# EAGLE library part MOLEX_MICRO_USB_B_BOTTOM_MOUNT (library 3DRobotics_Master_Library)
Molex Micro USB B Receptacle, bottom mount Micro-USB technology was developed by the USB Implementers Forum, Inc. (USB-IF), an independent nonprofit group that advances USB technology. Molex's Micro-USB connectors offer advantages of smaller size and increased durability compared with the Mini-USB. Micro-USB connectors allow manufacturers to push the limits of thinner and lighter mobile devices with sleeker designs and greater portability.
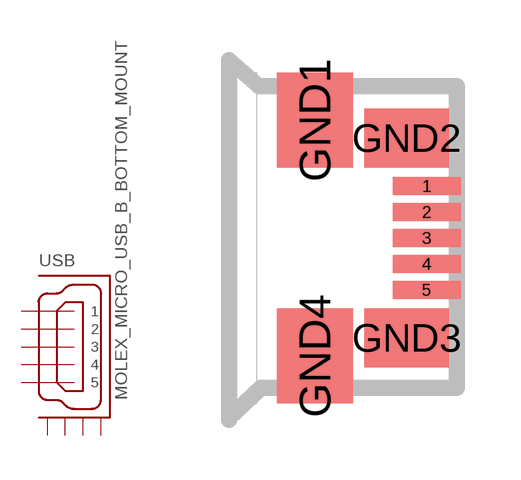
[diagram p22: symbol with the pads of MOLEX_MICRO_USB_B_BOTTOM_MOUNT; footprint MOLEX_MICRO_USB_B_BOTTOM_MOUNT]

Designator prefix USB

## MOLEX_MICRO_USB_B_BOTTOM_MOUNT (DATASHEET: http://www.molex.com/webdocs/datasheets/pdf/en-us/0473460001_IO_CONNECTORS.pdf; LINK: http://www.molex.com/molex/products/family?key=micro_usb&channel=products&chanName=family&pageTitle=Introduction; MFGPN: 47346-0001)  [MOLEX_MICRO_USB_B_BOTTOM_MOUNT]
1  1  in
2  2  in
3  3  in
4  4  in
5  5  in
GND1  GND1
GND2  GND2
GND3  GND3
GND4  GND4

## Footprint MOLEX_MICRO_USB_B_BOTTOM_MOUNT (pad centres in mm)
smd 1.7 x 0.45: 1 2.8,1.3; 2 2.8,0.65; 3 2.8,0; 4 2.8,-0.65; 5 2.8,-1.3
smd 1.9 x 2.375: GND1 0,2.95; GND4 0,-2.95
smd 2.1 x 1.475: GND2 2.3,2.5; GND3 2.3,-2.5